# EAGLE library part ATTINY2313 (library PiB_ic_microcontrollers)
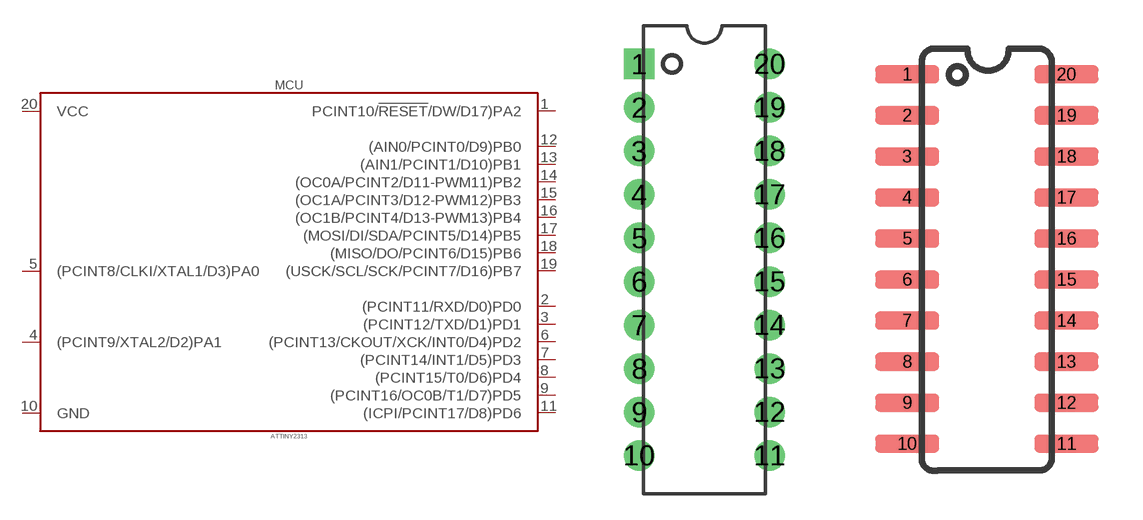
[diagram p3: symbol with the pads of DIP-20; footprints DIP-20, SO-20_REMAKE_THIS]

Designator prefix MCU

## ATTINY2313_DIP-20 (CREATOR: MrSwirlyEyes; DATASHEET: http://www.atmel.com/Images/doc8246.pdf; DATASHEET_CONNECTOR: http://www.assmann-wsw.com/fileadmin/datasheets/ASS_0810_CO.pdf; DIST: Digikey; DISTLINK: https://www.digikey.com/products/en?keywords=ATTINY2313A-PU-ND; DISTLINK_CONNECTOR: https://www.digikey.com/products/en?keywords=A%2020-LC-TT; DISTPN: ATTINY2313A-PU-ND; DISTPN_CONNECTOR: AE9998-ND; DIST_CONNECTOR: Digikey; MFR: Microchip Technology; MFR_CONNECTOR: Assmann WSW Components; MPN: ATTINY2313A-PU; MPN_CONNECTOR: A 20-LC-TT; TESTED: NO; VALUE: ATTINY2313/2KB)  [DIP-20]
1  PCINT10/!RESET!/DW/D17)PA2
2  (PCINT11/RXD/D0)PD0
3  (PCINT12/TXD/D1)PD1
4  (PCINT9/XTAL2/D2)PA1
5  (PCINT8/CLKI/XTAL1/D3)PA0
6  (PCINT13/CKOUT/XCK/INT0/D4)PD2
7  (PCINT14/INT1/D5)PD3
8  (PCINT15/T0/D6)PD4
9  (PCINT16/OC0B/T1/D7)PD5
10  GND  pas
11  (ICPI/PCINT17/D8)PD6
12  (AIN0/PCINT0/D9)PB0
13  (AIN1/PCINT1/D10)PB1
14  (OC0A/PCINT2/D11-PWM11)PB2
15  (OC1A/PCINT3/D12-PWM12)PB3
16  (OC1B/PCINT4/D13-PWM13)PB4
17  (MOSI/DI/SDA/PCINT5/D14)PB5
18  (MISO/DO/PCINT6/D15)PB6
19  (USCK/SCL/SCK/PCINT7/D16)PB7
20  VCC  pas

## ATTINY2313_SO-20 (CREATOR: MrSwirlyEyes; DATASHEET: http://www.atmel.com/Images/doc8246.pdf; DIST: Digikey; DISTLINK: https://www.digikey.com/products/en?keywords=ATTINY2313A-SU-ND; DISTPN: ATTINY2313A-SU-ND; MFR: Microchip Technology; MPN: ATTINY2313A-SU; TESTED: NO; VALUE: ATTINY2313/2KB)  [SO-20_REMAKE_THIS]
Pads as for DIP-20

## Footprint DIP-20 (pad centres in mm)
drill 0.813 pad 1.778 square: 1 -3.81,11.43
drill 0.813 pad 1.778: 2 -3.81,8.89; 3 -3.81,6.35; 4 -3.81,3.81; 5 -3.81,1.27; 6 -3.81,-1.27; 7 -3.81,-3.81; 8 -3.81,-6.35; 9 -3.81,-8.89; 10 -3.81,-11.43; 11 3.81,-11.43; 12 3.81,-8.89; 13 3.81,-6.35; 14 3.81,-3.81; 15 3.81,-1.27; 16 3.81,1.27; 17 3.81,3.81; 18 3.81,6.35; 19 3.81,8.89; 20 3.81,11.43

## Footprint SO-20_REMAKE_THIS (pad centres in mm)
smd 1.981 x 0.559: 1 -2.464,5.715; 2 -2.464,4.445; 3 -2.464,3.175; 4 -2.464,1.905; 5 -2.464,0.635; 6 -2.464,-0.635; 7 -2.464,-1.905; 8 -2.464,-3.175; 9 -2.464,-4.445; 10 -2.464,-5.715; 11 2.464,-5.715; 12 2.464,-4.445; 13 2.464,-3.175; 14 2.464,-1.905; 15 2.464,-0.635; 16 2.464,0.635; 17 2.464,1.905; 18 2.464,3.175; 19 2.464,4.445; 20 2.464,5.715